# EAGLE library part EXB-A10P (library JeeLabs)
Chip Resistor Array 4 Single Resistor Source: http://www.ctscorp.com/components/Datasheets/CTSChipArrayDs.pdf
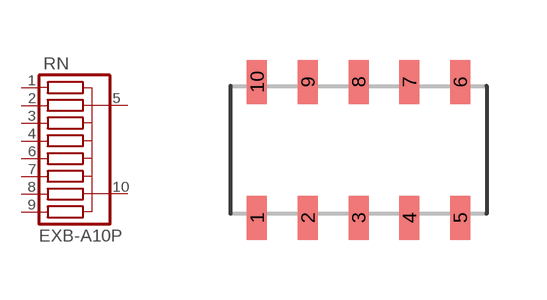
[diagram p21: symbol with the pads of EXB-A10P; footprint EXB-A10P]

Designator prefix RN

## EXB-A10P  [EXB-A10P]
1  1  pas
2  2  pas
3  3  pas
4  4  pas
5  C5  pas
6  5  pas
7  6  pas
8  7  pas
9  8  pas
10  C10  pas

## Footprint EXB-A10P (pad centres in mm)
Chip Resistor Array Source: http://www.ctscorp.com/components/Datasheets/CTSChipArrayDs.pdf
smd 0.5 x 1.1: 1 -2.54,-1.7; 2 -1.27,-1.7; 3 0,-1.7; 4 1.27,-1.7; 5 2.54,-1.7; 6 2.54,1.7; 7 1.27,1.7; 8 0,1.7; 9 -1.27,1.7; 10 -2.54,1.7